# EAGLE library part 61201022323 (library Wurth_Elektronik_Electromechanic_Wire_to_Board_Connectors_rev15c)
WR-BHD 2.54mm Board to Cable Transition Connector, 10 Pins=>Code : Con_WTB_IDC_61201022323 <http://katalog.we-online.de/media/thumbs2/eican/thb_Con_WTB_IDC_6120xx22323_pf2.jpg> Details see: http://katalog.we-online.de/en/em/612_0xx_223_23 Created 2014-06-05, Karrer Zheng 2014 (C) Würth Elektronik
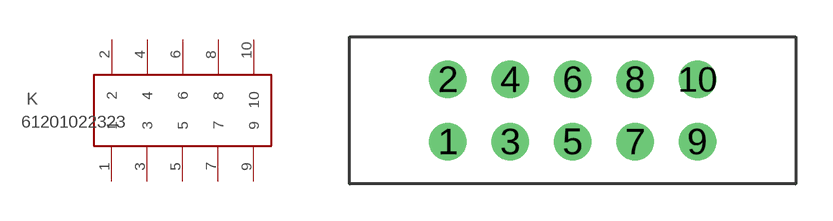
[diagram p125: symbol with the pads of 61201022323; footprint 61201022323]

Designator prefix K

## 61201022323  [61201022323]
1  1  pas
2  2  pas
3  3  pas
4  4  pas
5  5  pas
6  6  pas
7  7  pas
8  8  pas
9  9  pas
10  10  pas

## Footprint 61201022323 (pad centres in mm)
WR-BHD 2.54mm Board to Cable Transition Connector, 10 Pins
drill 1.02: 1 -2.54,-1.27; 2 -2.54,1.27; 3 0,-1.27; 4 0,1.27; 5 2.54,-1.27; 6 2.54,1.27; 7 5.08,-1.27; 8 5.08,1.27; 9 7.62,-1.27; 10 7.62,1.27